# EAGLE library part DS2745 (library DS2745)
Low-Cost I²C Battery Monitor in µMAX Source: http://www.maxim-ic.com .. DS2745.pdf
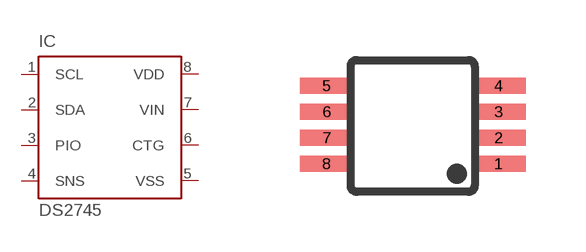
[diagram p0: symbol with the pads of UMAX10; footprint UMAX10]

Designator prefix IC

## DS2745  [UMAX10]
1  SCL  in
2  SDA  in
3  PIO  in
4  SNS  in
5  VSS  pwr
6  CTG  pwr
7  VIN  oc
8  VDD  in

## Footprint UMAX10 (pad centres in mm)
micro MAX Package
smd 1.35 x 0.4: 1 1.7,-0.65; 2 1.7,0; 3 1.7,0.65; 4 1.7,1.3; 5 -2.6,1.3; 6 -2.6,0.65; 7 -2.6,0; 8 -2.6,-0.65